# Altium schematic symbol library SCH - DIGITAL POT - ONSEMI CAT5138.SchLib: 1 symbol
Pins are listed as number, name and electrical type; pins without a type are passive.

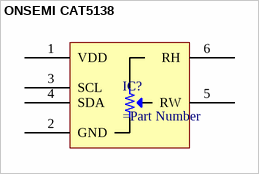
[diagram p0: symbol ONSEMI CAT5138]

## ONSEMI CAT5138
designator IC?
pins: 1 VDD, 2 GND, 3 SCL, 4 SDA, 5 RW, 6 RH